# Altium schematic symbol library CurrentController.SchLib: 14 symbols
Pins are listed as number, name and electrical type; pins without a type are passive.

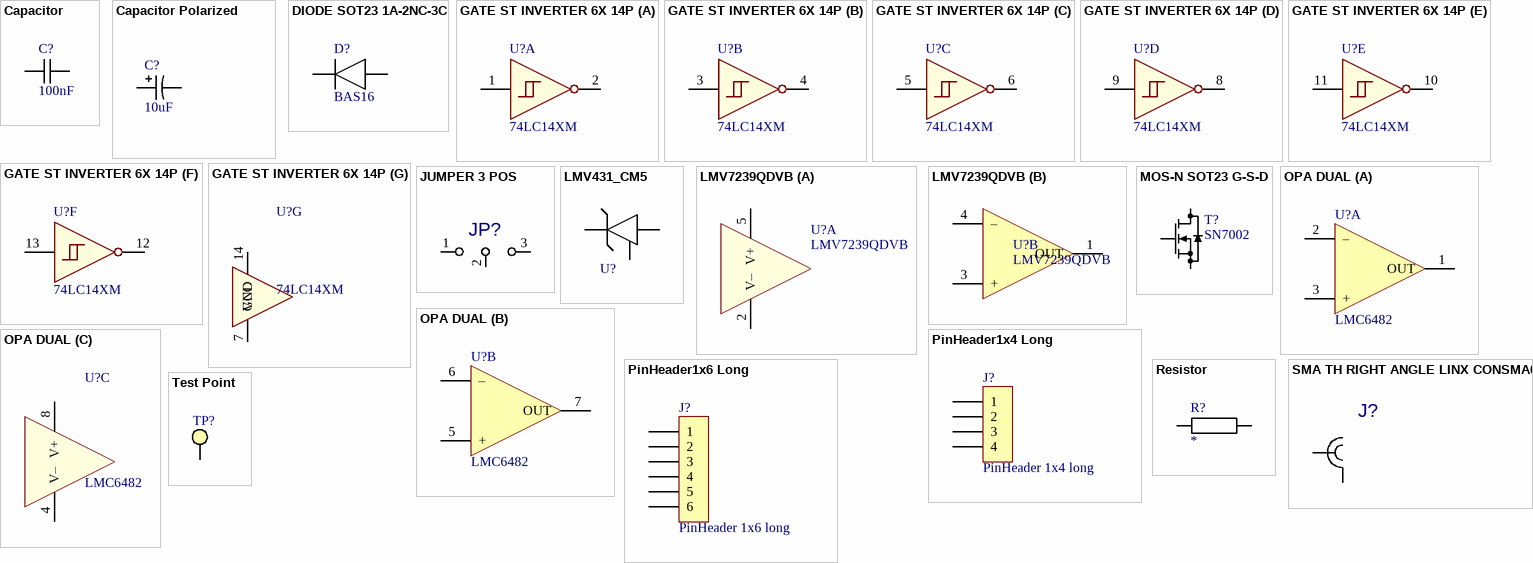
[diagram p0: symbols Capacitor to Test Point]

## Capacitor
designator C?, comment 100nF
Capacitor; Value: 100nF
footprint CAPACITOR 1005 REFLOW (Capacitor SMD 1.0x0.5mm (0402-imperial))
footprint CAPACITOR 1608 REFLOW (Capacitor SMD 1.6x0.8mm (0603-imperial))
footprint CAPACITOR 2012 REFLOW (Capacitor SMD 2.0x1.2mm (0805-imperial))
footprint Capacitor P2.5 C4.5x2.5 H4.0 (Capacitor Ceramic)
footprint Capacitor P2.5 C5.0x3.0 H8.0 (Capacitor Polypropylene)
footprint CAPACITOR 3216 REFLOW (Capacitor SMD 3.2x1.6mm (1206-imperial))
footprint CAPACITOR 3225 REFLOW (Capacitor SMD 3.2x2.5mm (1210-imperial))
footprint CAPACITOR 0603 REFLOW (Capacitor SMD 0.6x0.3mm (0201-imperial))
footprint CAPACITOR 4520 REFLOW (Capacitor SMD 4.5x2.0mm (1808-imperial))
footprint Capacitor P27.5 C32.0x18.0 H33.0 (Capacitor Polypropylene)
pins: 1, 2

## Capacitor Polarized
designator C?, comment 10uF
Capacitor polarized; Value: 10uF
footprint CAPACITOR POL 3216-18 REFLOW (Capacitor SMD 3.2x1.6mm, Height 1.8mm,  (TAJ-A))
footprint CAPACITOR POL 3528-21 REFLOW (Capacitor SMD 3.5x2.8mm, Height 2.1mm,  (TAJ-B))
footprint CAPACITOR POL 6032-28 REFLOW (Chip Capacitor, 2-Leads, Body 6.00x3.20mm, Height 2.8mm,  (TAJ-C))
footprint CAPACITOR POL 7343-43 REFLOW (Chip Capacitor, 2-Leads, Body 7.30x4.30mm, Height 4.30mm,  (TAJ-E))
footprint CAPACITOR POL 7343-31 REFLOW (Chip Capacitor, 2-Leads, Body 7.30x4.30mm, Height 3.1mm,  (TAJ-D))
footprint Capacitor POL P2.00 D5.5 H12.0 (Capacitor Electrolyte Polarized Pitch 2mm, Diameter 5.5mm, Height 12mm)
footprint Capacitor POL P3.5 D8.0 H13.0 (Capacitor Electrolyte Polarized Pitch 3.5mm, Diameter 8mm, Height 13mm)
footprint Capacitor POL P5 D13 H20 (Capacitor Electrolyte Polarized Pitch 5mm, Diameter 13mm, Height 20mm)
footprint Capacitor POL P7.5 D16 H33 (Capacitor Electrolyte Polarized Pitch 7.5mm, Diameter 16mm, Height 33mm)
footprint CAPACITOR POL 7361-38 REFLOW (Chip Capacitor, 2-Leads, Body 7.30x6.10mm, Height 3.8mm,  (TAJ-V))
footprint Capacitor POL SMD D8.0 H10.0 (Capacitor Electrolyte Polarized SMD, Diameter 8mm, Height 10mm)
footprint Capacitor POL SMD D10.0 H10.0 (Capacitor Electrolyte Polarized SMD, Diameter 10mm, Height 10mm)
footprint CAPACITOR POL 7343-20 REFLOW (Chip Capacitor, 2-Leads, Body 7.30x4.30mm, Height 1.9mm,  (TAJ-V))
footprint Capacitor POL P5 D10 H16 (Capacitor Electrolyte Polarized Pitch 5mm, Diameter 10mm, Height 16mm)
footprint Capacitor POL P5 D10 H21 (Capacitor Electrolyte Polarized Pitch 5mm, Diameter 10mm, Height 21mm)
pins: 1, 2

## DIODE SOT23 1A-2NC-3C
designator D?, comment BAS16
Diode generic; Value: BAS16
footprint SOT23 P0.95 C1.6x3.0 H1.3 (SOT23, 3-Leads, Body 1.6x3.0mm, Pitch 0.95mm, IPC Medium Density); pin to pad 1>3 2>1
pins: 1 C, 2 A

## GATE ST INVERTER 6X 14P
designator U?, comment 74LC14XM
GATE ST INVERTER 6X 14P; Value: 74LC14XM
footprint DIP14 P2.54 W7.62 H5.0 (14-Pin Dual in Line Integrated Circuit 2.54 Pitch, 7.62 Width, Case 20x6mm)
footprint SO14 P1.27 C4.0X8.8 H1.75 (SOIC, 14-Leads, Body 4.0X8.8mm, Pitch 1.27mm, IPC Medium Density)
part A pins: 1 I0, 2 ~{O0}
part B pins: 3 I1, 4 ~{O1}
part C pins: 5 I2, 6 ~{O2}
part D pins: 8 ~{O3}, 9 I3
part E pins: 10 ~{O4}, 11 I4
part F pins: 12 ~{O5}, 13 I5
part G pins: 7 GND, 14 VCC

## JUMPER 3 POS
designator JP?, comment {Value}  (value not drawn)
JUMPER 3 POS; Value: {Value}
footprint JUMPER3 SMD TRIANGLE
footprint JUMPER3 TH
footprint JUMPER3 SMD HS (JUMPER3 SMD High speed)
pins: 1, 2, 3

## LMV431_CM5
designator U?, comment LMV431ACM5  (value not drawn)
Low-Voltage (1.24-V) Adjustable Precision Shunt Regulators; Value: LMV431ACM5
footprint SOT23-5 P0.95 C1.6x3.0 H1.3 (SOT23, 5-Leads, Body 1.6x3.0mm, Pitch 0.95mm, IPC Medium Density)
pins: 3 C, 4 REF, 5 A

## LMV7239QDVB
designator U?
Ultra Low Power, Low Voltage, Rail-to-Rail  Input Comparator with Open-Drain and Push-Pull Output; Value: LMV7239QDVB
footprint SOT23-5 P0.95 C1.6x3.0 H1.3 (SOT23, 5-Leads, Body 1.6x3.0mm, Pitch 0.95mm, IPC Medium Density)
part A pins: 2 V–, 5 V+
part B pins: 1 OUT, 3 +, 4 –

## MOS-N SOT23 G-S-D
designator T?, comment SN7002
Generic MOS-N; Value: SN7002
footprint SOT23 P0.95 C1.6x3.0 H1.3 (SOT23, 3-Leads, Body 1.6x3.0mm, Pitch 0.95mm, IPC Medium Density)
pins: 1 G, 2 S, 3 D

## OPA DUAL
designator U?, comment LMC6482
Generic dual operational amplifier 8 pins; Value: LMC6482
footprint DIP8 P2.54 W7.62 H5.0 (8-Pin Dual in Line Integrated Circuit 2.54 Pitch, 7.62 Width, Case 10x6mm)
footprint SO8 P1.27 W5.84 H1.75 (8-Pin Small Outline Integrated Circuit 1.27 mm Pitch, IPC Medium Density)
footprint MSOP8 P0.65 C3.0X3.0 H1.1 (MSOP, 8-Leads, Body 3.00x3.00mm, Pitch 0.65mm, IPC Medium Density)
part A pins: 1 OUT, 2 –, 3 +
part B pins: 5 +, 6 –, 7 OUT
part C pins: 4 V–, 8 V+

## PinHeader1x4 Long
designator J?, comment PinHeader 1x4 long
Plug connector; Value: PinHeader 1x4 long
footprint PinHeader1x4 P2.54 Long (Footprint not found)
pins: 1, 2, 3, 4

## PinHeader1x6 Long
designator J?, comment PinHeader 1x6 long
Plug connector; Value: PinHeader 1x6 long
footprint PinHeader1x6 P2.54 Long (Footprint not found)
pins: 1, 2, 3, 4, 5, 6

## Resistor
designator R?
Resistor; Value: *
footprint RESISTOR Radial P5.0 C13.0x9.0 (Resistor Radial pitch 5mm, 5 Watts)
footprint RESISTOR 1005 REFLOW (Resistor SMD 1.0x0.5mm (0402-imperial))
footprint RESISTOR 1608 REFLOW (Resistor SMD 1.6x0.8mm (0603-imperial))
footprint RESISTOR 2012 REFLOW (Resistor SMD 2.0x1.2mm (0805-imperial))
footprint RESISTOR 3216 REFLOW (Resistor SMD 3.2x1.6mm (1206-imperial))
footprint RESISTOR Axial P27.0 C22.0x8.0 (Resistor axial pitch 27mm, 5 Watts)
footprint RESISTOR 0603 REFLOW (Resistor SMD 0.6x0.3mm (0201-imperial))
footprint RESISTOR Axial P10.0 D2.5 L6.5 (Resistor axial pitch 10mm, 0.25 Watts)
pins: 1, 2

## SMA TH RIGHT ANGLE LINX CONSMA002
designator J?, comment LINX CONSMA002  (value not drawn)
SMA TH RIGHT ANGLE LINX CONSMA002; Value: LINX CONSMA002
footprint SMA TH Right Angle Linx CONSMA002 (Connector SMA TH Right Angle Linx CONSMA002)
pins: 1, 2, 3, 4, 5

## Test Point
designator TP?  (value not drawn)
Test Point; Value: *
footprint Pad D0.8 (Test Point simple pad diameter 0.8, no hole)
footprint Pad 3.0x1.5 (Test Point simple pad Squarre 3.0x1.5, no hole)
footprint Test Point Keystone Compact BLACK
footprint Test Point Keystone Compact RED (Test Point Keystone Compact)
footprint Test Point Keystone Miniature BLACK
footprint Test Point Keystone Miniature RED
footprint Test Point Vogt 1016L.68M
pins: 1